# EAGLE library part PIC24FJ64 (library 000001)
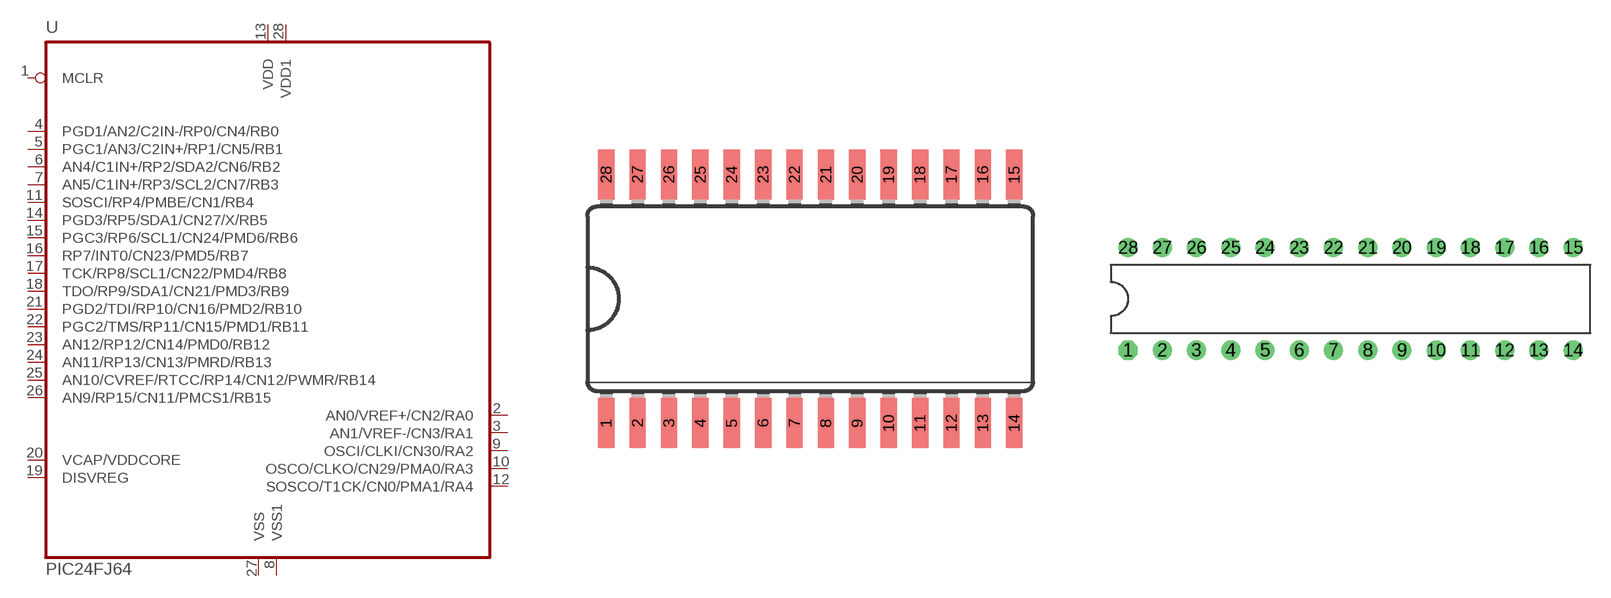
[diagram p69: symbol with the pads of SO28W; footprints SO28W, DIL28-3]

Designator prefix -

## PIC24FJ64  [SO28W]
1  MCLR  in
2  AN0/VREF+/CN2/RA0
3  AN1/VREF-/CN3/RA1
4  PGD1/AN2/C2IN-/RP0/CN4/RB0
5  PGC1/AN3/C2IN+/RP1/CN5/RB1
6  AN4/C1IN+/RP2/SDA2/CN6/RB2
7  AN5/C1IN+/RP3/SCL2/CN7/RB3
8  VSS1  pwr
9  OSCI/CLKI/CN30/RA2
10  OSCO/CLKO/CN29/PMA0/RA3
11  SOSCI/RP4/PMBE/CN1/RB4
12  SOSCO/T1CK/CN0/PMA1/RA4
13  VDD  pwr
14  PGD3/RP5/SDA1/CN27/X/RB5
15  PGC3/RP6/SCL1/CN24/PMD6/RB6
16  RP7/INT0/CN23/PMD5/RB7
17  TCK/RP8/SCL1/CN22/PMD4/RB8
18  TDO/RP9/SDA1/CN21/PMD3/RB9
19  DISVREG
20  VCAP/VDDCORE
21  PGD2/TDI/RP10/CN16/PMD2/RB10
22  PGC2/TMS/RP11/CN15/PMD1/RB11
23  AN12/RP12/CN14/PMD0/RB12
24  AN11/RP13/CN13/PMRD/RB13
25  AN10/CVREF/RTCC/RP14/CN12/PWMR/RB14
26  AN9/RP15/CN11/PMCS1/RB15
27  VSS  pwr
28  VDD1

## PIC24FJ64SP  [DIL28-3]
1  MCLR  in
2  AN0/VREF+/CN2/RA0
3  AN1/VREF-/CN3/RA1
4  PGD1/AN2/C2IN-/RP0/CN4/RB0
5  PGC1/AN3/C2IN+/RP1/CN5/RB1
6  AN4/C1IN+/RP2/SDA2/CN6/RB2
7  AN5/C1IN+/RP3/SCL2/CN7/RB3
8  VSS1  pwr
9  OSCI/CLKI/CN30/RA2
10  OSCO/CLKO/CN29/PMA0/RA3
11  SOSCI/RP4/PMBE/CN1/RB4
12  SOSCO/T1CK/CN0/PMA1/RA4
13  VDD1
14  PGD3/RP5/SDA1/CN27/X/RB5
15  PGC3/RP6/SCL1/CN24/PMD6/RB6
16  RP7/INT0/CN23/PMD5/RB7
17  TCK/RP8/SCL1/CN22/PMD4/RB8
18  TDO/RP9/SDA1/CN21/PMD3/RB9
19  DISVREG
20  VCAP/VDDCORE
21  PGD2/TDI/RP10/CN16/PMD2/RB10
22  PGC2/TMS/RP11/CN15/PMD1/RB11
23  AN12/RP12/CN14/PMD0/RB12
24  AN11/RP13/CN13/PMRD/RB13
25  AN10/CVREF/RTCC/RP14/CN12/PWMR/RB14
26  AN9/RP15/CN11/PMCS1/RB15
27  VSS  pwr
28  VDD  pwr

## Footprint SO28W (pad centres in mm)
smd 0.66 x 2.032: 1 -8.255,-5.029; 2 -6.985,-5.029; 3 -5.715,-5.029; 4 -4.445,-5.029; 5 -3.175,-5.029; 6 -1.905,-5.029; 7 -0.635,-5.029; 8 0.635,-5.029; 9 1.905,-5.029; 10 3.175,-5.029; 11 4.445,-5.029; 12 5.715,-5.029; 13 6.985,-5.029; 14 8.255,-5.029; 15 8.255,5.029; 16 6.985,5.029; 17 5.715,5.029; 18 4.445,5.029; 19 3.175,5.029; 20 1.905,5.029; 21 0.635,5.029; 22 -0.635,5.029; 23 -1.905,5.029; 24 -3.175,5.029; 25 -4.445,5.029; 26 -5.715,5.029; 27 -6.985,5.029; 28 -8.255,5.029

## Footprint DIL28-3 (pad centres in mm)
Dual In Line package type P
drill 0.7 pad 1.422 octagon: 1 -16.51,-3.81
drill 0.7 pad 1.422 round: 2 -13.97,-3.81; 3 -11.43,-3.81; 4 -8.89,-3.81; 5 -6.35,-3.81; 6 -3.81,-3.81; 7 -1.27,-3.81; 8 1.27,-3.81; 9 3.81,-3.81; 10 6.35,-3.81; 11 8.89,-3.81; 12 11.43,-3.81; 13 13.97,-3.81; 14 16.51,-3.81; 15 16.51,3.81; 16 13.97,3.81; 17 11.43,3.81; 18 8.89,3.81; 19 6.35,3.81; 20 3.81,3.81; 21 1.27,3.81; 22 -1.27,3.81; 23 -3.81,3.81; 24 -6.35,3.81; 25 -8.89,3.81; 26 -11.43,3.81; 27 -13.97,3.81; 28 -16.51,3.81